# Altium schematic symbol library Library.SchLib: 12 symbols
Pins are listed as number, name and electrical type; pins without a type are passive.

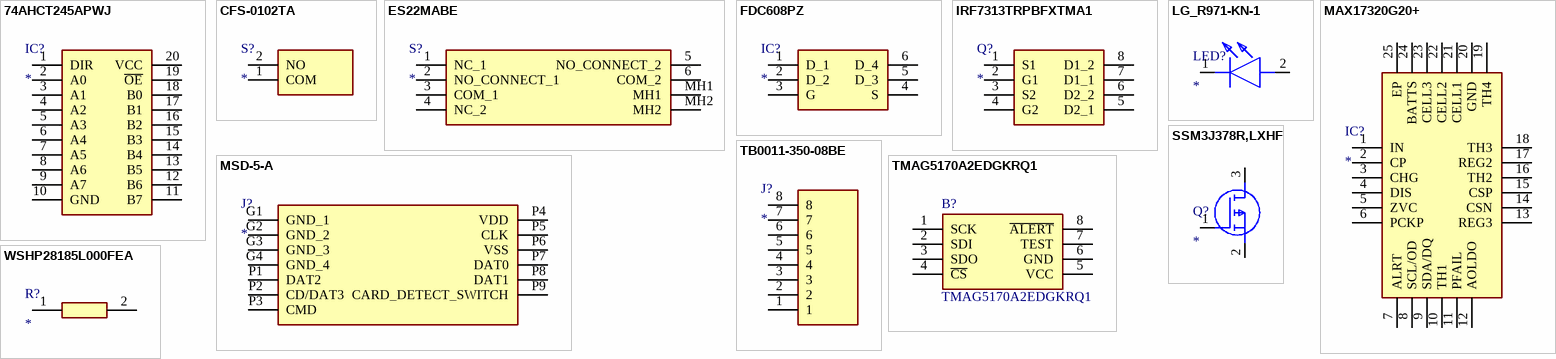
[diagram p0: symbols 74AHCT245APWJ to WSHP28185L000FEA]

## 74AHCT245APWJ
designator IC?
Integrated Circuit; Manufacturer_Name: Nexperia; Manufacturer_Part_Number: 74AHCT245APWJ; Datasheet Link: https://assets.nexperia.com/documents/data-sheet/74AHCT245A.pdf; Height: 1.1mm; Mouser Part Number: 771-74AHCT245APWJ; Mouser Price/Stock: https://www.mouser.co.uk/ProductDetail/Nexperia/74AHCT245APWJ?qs=u4fy%2FsgLU9Nfcswc3zVmFw%3D%3D; Arrow Part Number: 74AHCT245APWJ; Arrow Price/Stock: https://www.arrow.com/en/products/74ahct245apwj/nexperia
footprint SOP65P640X110-20N
pins: 1 DIR, 2 A0, 3 A1, 4 A2, 5 A3, 6 A4, 7 A5, 8 A6, 9 A7, 10 GND, 11 B7, 12 B6, 13 B5, 14 B4, 15 B3, 16 B2, 17 B1, 18 B0, 19 ~{OE}, 20 VCC

## CFS-0102TA
designator S?
Switch; Manufacturer_Name: Nidec Copal; Manufacturer_Part_Number: CFS-0102TA; Description: Slide Switches OFF-ON 1 position DIP switch; Datasheet Link: https://www.mouser.at/datasheet/2/972/cfs-1628139.pdf; Height: 4.5mm; Mouser Part Number: 229-CFS-0102TA; Mouser Price/Stock: https://www.mouser.co.uk/ProductDetail/Nidec-Components/CFS-0102TA?qs=XeJtXLiO41Qa%2Fz7Gp%252BxLVg%3D%3D
footprint CFS0102TA
pins: 1 COM, 2 NO

## ES22MABE
designator S?
Switch; Manufacturer_Name: LITTELFUSE; Manufacturer_Part_Number: ES22MABE; Description: Slide Switches R/A DPST OFF-NONE-ON; Datasheet Link: https://www.ckswitches.com/media/1421/es.pdf; Height: 6.38mm; Mouser Part Number: 611-ES22MABE; Mouser Price/Stock: https://www.mouser.co.uk/ProductDetail/CK/ES22MABE?qs=cygERTaPE9DGYUIaDpEvdQ%3D%3D; Arrow Part Number: ES22MABE; Arrow Price/Stock: https://www.arrow.com/en/products/es22mabe/ck?region=nac
footprint ES22MABE
pins: 1 NC_1, 2 NO_CONNECT_1, 3 COM_1, 4 NC_2, 5 NO_CONNECT_2, 6 COM_2, MH1, MH2

## FDC608PZ
designator IC?
Integrated Circuit; Manufacturer_Name: onsemi; Manufacturer_Part_Number: FDC608PZ; Description: High performance trench technology for extremely low RDS(on); -5.8A; Datasheet Link: https://www.onsemi.com/pub/Collateral/FDC608PZ-D.PDF; Height: 1.1mm; Mouser Part Number: 512-FDC608PZ; Mouser Price/Stock: https://www.mouser.co.uk/ProductDetail/onsemi-Fairchild/FDC608PZ?qs=cunaKtMgX5PRvFzPztrrbg%3D%3D; Arrow Part Number: FDC608PZ; Arrow Price/Stock: https://www.arrow.com/en/products/fdc608pz/on-semiconductor?utm_currency=USD&region=nac
footprint SOT95P275X110-6N
pins: 1 D_1, 2 D_2, 3 G, 4 S, 5 D_3, 6 D_4

## IRF7313TRPBFXTMA1
designator Q?
MOSFET (N-Channel); Manufacturer_Name: Infineon; Manufacturer_Part_Number: IRF7313TRPBFXTMA1; Description: MOSFET PLANAR 40<-<100V; Datasheet Link: https://www.mouser.co.uk/datasheet/2/196/Infineon_IRF7313_DataSheet_v01_01_EN-3224007.pdf; Height: 1.75mm; Mouser Part Number: 726-IRF7313TRPBFXTMA; Mouser Price/Stock: https://www.mouser.co.uk/ProductDetail/Infineon-Technologies/IRF7313TRPBFXTMA1?qs=1Kr7Jg1SGW%2FUB%252Bqt0Ezjig%3D%3D; Arrow Part Number: IRF7313TRPBFXTMA1; Arrow Price/Stock: https://www.arrow.com/en/products/irf7313trpbfxtma1/infineon-technologies-ag?utm_currency=USD&region=nac
footprint SOIC127P600X175-8N
pins: 1 S1, 2 G1, 3 S2, 4 G2, 5 D2_1, 6 D2_2, 7 D1_1, 8 D1_2

## LG_R971-KN-1
designator LED?
LED; Manufacturer_Name: ams OSRAM; Manufacturer_Part_Number: LG R971-KN-1; Description: Standard LEDs - SMD Green; Datasheet Link: http://www.mouser.com/ds/2/311/LG R971 - CHIPLED 0805-318376.pdf; Height: 0.8mm; Mouser Part Number: 720-LGR971-KN-1; Mouser Price/Stock: https://www.mouser.co.uk/ProductDetail/ams-OSRAM/LG-R971-KN-1?qs=LsPilcdHE7EX1EB7GCLHxg%3D%3D; Arrow Part Number: LG R971-KN-1; Arrow Price/Stock: https://www.arrow.com/en/products/lgr971-kn-1/osram-opto-semiconductors
footprint LEDC2012X80N
pins: 1 K, 2 A

## MAX17320G20+
designator IC?
Integrated Circuit; Manufacturer_Name: Analog Devices; Manufacturer_Part_Number: MAX17320G20+; Datasheet Link: https://www.analog.com/MAX17320/datasheet; Height: 0.8mm; Mouser Part Number: 700-MAX17320G20+; Mouser Price/Stock: https://www.mouser.co.uk/ProductDetail/Analog-Devices-Maxim-Integrated/MAX17320G20%2b?qs=sPbYRqrBIVnSGVqLjzq7LQ%3D%3D; Arrow Part Number: MAX17320G20+; Arrow Price/Stock: https://www.arrow.com/en/products/max17320g20/analog-devices?utm_currency=USD&region=nac
footprint QFN50P400X400X80-25N
pins: 1 IN, 2 CP, 3 CHG, 4 DIS, 5 ZVC, 6 PCKP, 7 ALRT, 8 SCL/OD, 9 SDA/DQ, 10 TH1, 11 PFAIL, 12 AOLDO, 13 REG3, 14 CSN, 15 CSP, 16 TH2, 17 REG2, 18 TH3, 19 TH4, 20 GND, 21 CELL1, 22 CELL2, 23 CELL3, 24 BATTS, 25 EP

## MSD-5-A
designator J?
Connector; Manufacturer_Name: Same Sky; Manufacturer_Part_Number: MSD-5-A; Datasheet Link: https://www.sameskydevices.com/product/resource/msd-5-a.pdf; Height: 2.15mm; Mouser Part Number: 179-MSD-5-A; Mouser Price/Stock: https://www.mouser.co.uk/ProductDetail/Same-Sky/MSD-5-A?qs=Z%252BL2brAPG1IFv3XQ8lubzw%3D%3D; Arrow Part Number: MSD-5-A; Arrow Price/Stock: https://www.arrow.com/en/products/msd-5-a/cui-devices?utm_currency=USD&region=nac
footprint MSD5A
pins: G1 GND_1, G2 GND_2, G3 GND_3, G4 GND_4, P1 DAT2, P2 CD/DAT3, P3 CMD, P4 VDD, P5 CLK, P6 VSS, P7 DAT0, P8 DAT1, P9 CARD_DETECT_SWITCH

## SSM3J378R,LXHF
designator Q?
MOSFET (P-Channel); Manufacturer_Name: Toshiba; Manufacturer_Part_Number: SSM3J378R,LXHF; Description: P-Channel 20 V 6A (Ta) 1W (Ta) Surface Mount SOT-23F; Datasheet Link: https://toshiba.semicon-storage.com/info/SSM3J378R_datasheet_en_20220119.pdf?did=59205&prodName=SSM3J378R; Height: 0.88mm; Mouser Part Number: 757-SSM3J378RLXHF; Mouser Price/Stock: https://www.mouser.co.uk/ProductDetail/Toshiba/SSM3J378RLXHF?qs=pUKx8fyJudA%2Fe5bWObZJSA%3D%3D; Arrow Part Number: SSM3J378R,LXHF; Arrow Price/Stock: https://www.arrow.com/en/products/ssm3j378rlxhf/toshiba?region=nac
footprint SOTFL95P240X88-3N
pins: 1 G, 2 S, 3 D

## TB0011-350-08BE
designator J?
Connector; Manufacturer_Name: Same Sky; Manufacturer_Part_Number: TB0011-350-08BE; Datasheet Link: https://www.sameskydevices.com/product/resource/tb0011-350.pdf; Height: 8.5mm
footprint TB0011-350-08BE
pins: 1, 2, 3, 4, 5, 6, 7, 8

## TMAG5170A2EDGKRQ1
designator B?
Board Mount Hall Effect/Magnetic Sensors; Manufacturer_Name: Texas Instruments; Geometry.Height: 1.1mm; Mouser Part Number: 595-MAG5170A2EDGKRQ1; Mouser Price/Stock: https://www.mouser.co.uk/ProductDetail/Texas-Instruments/TMAG5170A2EDGKRQ1?qs=doiCPypUmgFsK4QjDrwHCw%3D%3D; Manufacturer_Part_Number: TMAG5170A2EDGKRQ1; Datasheet Link: https://www.ti.com/lit/gpn/tmag5170-q1
footprint SOP65P490X110-8N
pins: 1 SCK, 2 SDI, 3 SDO, 4 ~{CS}, 5 VCC, 6 GND, 7 TEST, 8 ~{ALERT}

## WSHP28185L000FEA
designator R?
Resistor; Manufacturer_Name: Vishay; Manufacturer_Part_Number: WSHP28185L000FEA; Description: Current Sense Resistors - SMD 10W .005ohms 1%; Datasheet Link: https://componentsearchengine.com/Datasheets/1/WSHP28185L000FEA.pdf; Height: 1.75mm; Mouser Part Number: 71-WSHP28185L000FEA; Mouser Price/Stock: https://www.mouser.co.uk/ProductDetail/Vishay-Dale/WSHP28185L000FEA?qs=WY0B%252Bpw29jOU8WmnTnxtZg%3D%3D; Arrow Part Number: WSHP28185L000FEA; Arrow Price/Stock: https://www.arrow.com/en/products/wshp28185l000fea/vishay?utm_currency=USD&region=nac
footprint RESC7146X175N
pins: 1, 2